# Altium schematic symbol library BA78XXFP-E2.SchLib: 3 symbols
Pins are listed as number, name and electrical type; pins without a type are passive.

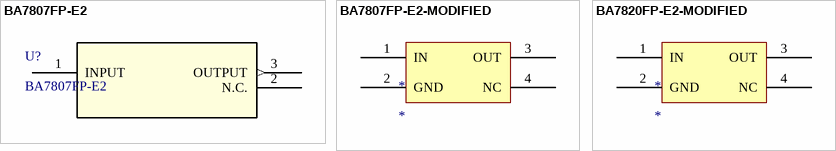
[diagram p0: symbols BA7807FP-E2 to BA7820FP-E2-MODIFIED]

## BA7807FP-E2
designator U?
No Description Available; Mfr_Name: ROHM Semiconductor; Copyright: Copyright (C) 2022 Ultra Librarian. All rights reserved.; Manufacturer_Part_Number: BA7807FP-E2; Digi-Key_Part_Number_1: BA7807FP-E2TR-ND; Digi-Key_Part_Number_2: BA7807FP-E2CT-ND; Digi-Key_Part_Number_3: BA7807FP-E2DKR-ND; RefDes: RefDes; Type: DEV
footprint TO252-3_ROM
pins: 1 INPUT, 2 N.C., 3 OUTPUT (out)

## BA7807FP-E2-MODIFIED
designator *
Created by Ashley, not verified to be correct
footprint TO252-3_ROM - CORRECTED
pins: 1 IN, 2 GND, 3 OUT, 4 NC

## BA7820FP-E2-MODIFIED
designator *
Created by Ashley, not verified to be correct
footprint TO252-3_ROM - CORRECTED
pins: 1 IN, 2 GND, 3 OUT, 4 NC